# Altium schematic symbol library Schlib1.SchLib: 14 symbols
Pins are listed as number, name and electrical type; pins without a type are passive.

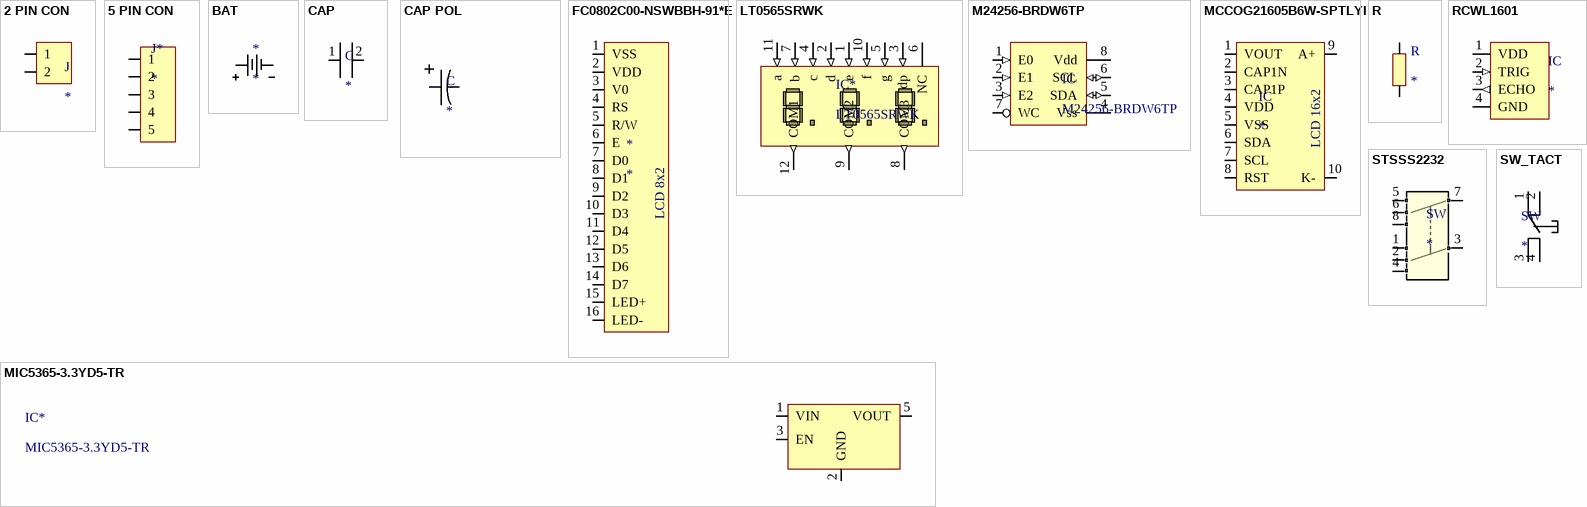
[diagram p0: symbols 2 PIN CON to SW_TACT]

## 2 PIN CON
designator J
footprint 2 PIN CON
pins: 1, 2

## 5 PIN CON
designator J*
footprint 5 PIN CON
pins: 1, 2, 3, 4, 5

## BAT
designator *
footprint MP000342 (Battery holder 2xAAA)
pins: 1 -, 2 +

## CAP
designator C
Capacitor
pins: 1, 2

## CAP POL
designator C
Capacitor
footprint THT CAP POL 5mm
pins: 1, 2

## FC0802C00-NSWBBH-91*E
designator *
LCD 8x2
pins: 1 VSS, 2 VDD, 3 V0, 4 RS, 5 R/W, 6 E, 7 D0, 8 D1, 9 D2, 10 D3, 11 D4, 12 D5, 13 D6, 14 D7, 15 LED+, 16 LED-

## LT0565SRWK
designator IC*
7 segment LED display, 3 digit, common cathode
footprint 7 segment LED display (3 digits)
pins: 1 e (in), 2 d (in), 3 dp (in), 4 c (in), 5 g (in), 6 NC, 7 b (in), 8 COM3 (out), 9 COM2 (out), 10 f (in), 11 a (in), 12 COM1 (out)

## M24256-BRDW6TP
designator IC
EEPROM 256kbit
footprint TSSOP8 DW
pins: 1 E0 (in), 2 E1 (in), 3 E2 (in), 4 Vss (power), 5 SDA (io), 6 SCL (io), 7 WC, 8 Vdd (power)

## MCCOG21605B6W-SPTLYI
designator IC
3V-5V 16x2 character LCD
footprint LCD MCCOG21605B6W-SPTLYI (16x2)
pins: 1 VOUT, 2 CAP1N, 3 CAP1P, 4 VDD, 5 VSS, 6 SDA, 7 SCL, 8 RST, 9 A+, 10 K-
text: LCD 16x2

## MIC5365-3.3YD5-TR
designator IC*
LDO Voltage regulator 2.5V-5.5V in 3.3V out
footprint TSOT-23-5
pins: 1 VIN, 2 GND, 3 EN, 5 VOUT

## R
designator R
footprint R THT 250mW
pins: 1, 2

## RCWL1601
designator IC
Ultrasonic distance sensor
footprint RCWL-1601 (Ultrasonic distance sensor)
pins: 1 VDD (power), 2 TRIG (in), 3 ECHO (out), 4 GND (power)

## STSSS2232
designator SW
Sliding switch
footprint STSSS2232 (Slide switch 3POS)
pins: 1, 2, 3, 4, 5, 6, 7, 8

## SW_TACT
designator SW
Tactile switch
footprint PCBComponent_1
pins: 1, 2, 3, 4